# Altium schematic symbol library Microchip Interface.SchLib: 331 symbols (part 1 of 10)
Pins are listed as number, name and electrical type; pins without a type are passive.

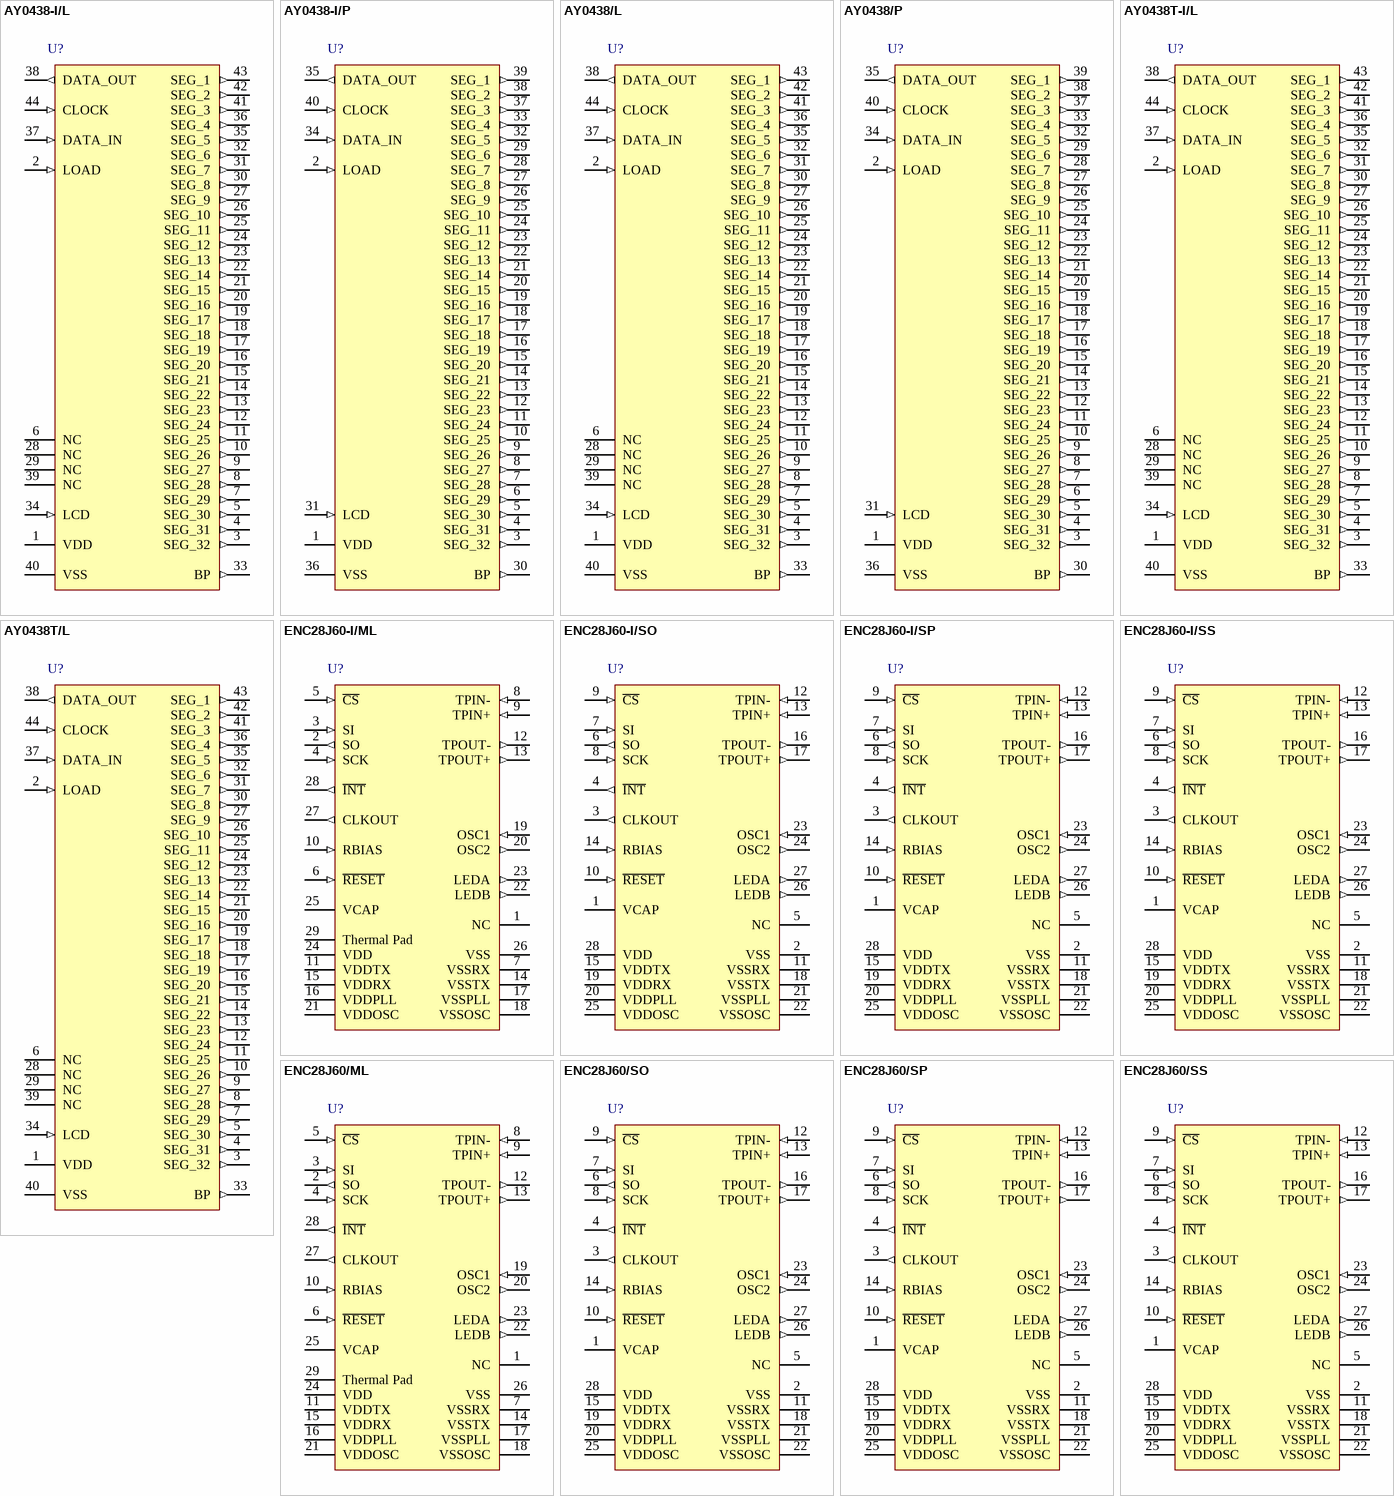
[diagram p0: symbols AY0438-I/L to ENC28J60/SS]

## AY0438-I/L
designator U?
32-Segment CMOS LCD Driver, 44-Pin PLCC, Industrial Temperature; Manufacturer: Microchip; PartNumber: AY0438-I/L; DatasheetVersion: revA, Apr-2003; PackageVersion: revBB, Aug-2009; PackageReference: PLCC-L44; PackageDescription: 44-Lead Plastic Leaded Chip Carrier (L) - Square [PLCC]; Supplier 1: Digi-Key; Supplier Part Number 1: AY0438-I/L-ND; Mounting Technology: Surface Mount; Code_JEDEC: MO-047; Code_IPC: PLCC-44; ComponentLink1Description: Manufacturer URL; ComponentLink1URL: http://www.microchip.com/; ComponentLink2Description: Datasheet; ComponentLink2URL: http://ww1.microchip.com/downloads/en/DeviceDoc/80438a.pdf; ComponentLink3Description: Package Specification; ComponentLink3URL: http://www.microchip.com/stellent/groups/techpub_sg/documents/packagingspec/en012702.pdf
footprint PLCC-L44_N (Leaded Chip Carrier, 44-Leads, Body 16.6x16.6mm, Pitch 1.27mm, IPC Medium Density)
footprint PLCC-L44_L (Leaded Chip Carrier, 44-Leads, Body 16.6x16.6mm, Pitch 1.27mm, IPC High Density)
footprint PLCC-L44_M (Leaded Chip Carrier, 44-Leads, Body 16.6x16.6mm, Pitch 1.27mm, IPC Low Density)
pins: 1 VDD (power), 2 LOAD (in), 3 SEG_32 (out), 4 SEG_31 (out), 5 SEG_30 (out), 6 NC, 7 SEG_29 (out), 8 SEG_28 (out), 9 SEG_27 (out), 10 SEG_26 (out), 11 SEG_25 (out), 12 SEG_24 (out), 13 SEG_23 (out), 14 SEG_22 (out), 15 SEG_21 (out), 16 SEG_20 (out), 17 SEG_19 (out), 18 SEG_18 (out), 19 SEG_17 (out), 20 SEG_16 (out), 21 SEG_15 (out), 22 SEG_14 (out), 23 SEG_13 (out), 24 SEG_12 (out), 25 SEG_11 (out), 26 SEG_10 (out), 27 SEG_9 (out), 28 NC, 29 NC, 30 SEG_8 (out), 31 SEG_7 (out), 32 SEG_6 (out), 33 BP (out), 34 LCD (in), 35 SEG_5 (out), 36 SEG_4 (out), 37 DATA_IN (in), 38 DATA_OUT (out), 39 NC, 40 VSS (power), 41 SEG_3 (out), 42 SEG_2 (out), 43 SEG_1 (out), 44 CLOCK (in)

## AY0438-I/P
designator U?
32-Segment CMOS LCD Driver, 40-Pin PDIP, Industrial Temperature; Manufacturer: Microchip; PartNumber: AY0438-I/P; DatasheetVersion: revA, Apr-2003; PackageVersion: revBB, Aug-2009; PackageReference: PDIP600-P40; PackageDescription: 40-Lead Plastic Dual In-Line (P) - 600 mil Body [PDIP]; Supplier 1: Digi-Key; Supplier Part Number 1: AY0438-I/P-ND; Mounting Technology: Through Hole; ComponentLink1Description: Manufacturer URL; ComponentLink1URL: http://www.microchip.com/; ComponentLink2Description: Datasheet; ComponentLink2URL: http://ww1.microchip.com/downloads/en/DeviceDoc/80438a.pdf; ComponentLink3Description: Package Specification; ComponentLink3URL: http://www.microchip.com/stellent/groups/techpub_sg/documents/packagingspec/en012702.pdf
footprint PDIP600-P40 (DIP, 40-Leads, Row Spacing 15.24mm, Pitch 2.54mm, Body 51.8x13.5mm)
pins: 1 VDD (power), 2 LOAD (in), 3 SEG_32 (out), 4 SEG_31 (out), 5 SEG_30 (out), 6 SEG_29 (out), 7 SEG_28 (out), 8 SEG_27 (out), 9 SEG_26 (out), 10 SEG_25 (out), 11 SEG_24 (out), 12 SEG_23 (out), 13 SEG_22 (out), 14 SEG_21 (out), 15 SEG_20 (out), 16 SEG_19 (out), 17 SEG_18 (out), 18 SEG_17 (out), 19 SEG_16 (out), 20 SEG_15 (out), 21 SEG_14 (out), 22 SEG_13 (out), 23 SEG_12 (out), 24 SEG_11 (out), 25 SEG_10 (out), 26 SEG_9 (out), 27 SEG_8 (out), 28 SEG_7 (out), 29 SEG_6 (out), 30 BP (out), 31 LCD (in), 32 SEG_5 (out), 33 SEG_4 (out), 34 DATA_IN (in), 35 DATA_OUT (out), 36 VSS (power), 37 SEG_3 (out), 38 SEG_2 (out), 39 SEG_1 (out), 40 CLOCK (in)

## AY0438/L
designator U?
32-Segment CMOS LCD Driver, 44-Pin PLCC; Manufacturer: Microchip; PartNumber: AY0438/L; DatasheetVersion: revA, Apr-2003; PackageVersion: revBB, Aug-2009; PackageReference: PLCC-L44; PackageDescription: 44-Lead Plastic Leaded Chip Carrier (L) - Square [PLCC]; Supplier 1: Digi-Key; Supplier Part Number 1: AY0438/L-ND; Mounting Technology: Surface Mount; Code_JEDEC: MO-047; Code_IPC: PLCC-44; ComponentLink1Description: Manufacturer URL; ComponentLink1URL: http://www.microchip.com/; ComponentLink2Description: Datasheet; ComponentLink2URL: http://ww1.microchip.com/downloads/en/DeviceDoc/80438a.pdf; ComponentLink3Description: Package Specification; ComponentLink3URL: http://www.microchip.com/stellent/groups/techpub_sg/documents/packagingspec/en012702.pdf
footprint PLCC-L44_N (Leaded Chip Carrier, 44-Leads, Body 16.6x16.6mm, Pitch 1.27mm, IPC Medium Density)
footprint PLCC-L44_L (Leaded Chip Carrier, 44-Leads, Body 16.6x16.6mm, Pitch 1.27mm, IPC High Density)
footprint PLCC-L44_M (Leaded Chip Carrier, 44-Leads, Body 16.6x16.6mm, Pitch 1.27mm, IPC Low Density)
pins: 1 VDD (power), 2 LOAD (in), 3 SEG_32 (out), 4 SEG_31 (out), 5 SEG_30 (out), 6 NC, 7 SEG_29 (out), 8 SEG_28 (out), 9 SEG_27 (out), 10 SEG_26 (out), 11 SEG_25 (out), 12 SEG_24 (out), 13 SEG_23 (out), 14 SEG_22 (out), 15 SEG_21 (out), 16 SEG_20 (out), 17 SEG_19 (out), 18 SEG_18 (out), 19 SEG_17 (out), 20 SEG_16 (out), 21 SEG_15 (out), 22 SEG_14 (out), 23 SEG_13 (out), 24 SEG_12 (out), 25 SEG_11 (out), 26 SEG_10 (out), 27 SEG_9 (out), 28 NC, 29 NC, 30 SEG_8 (out), 31 SEG_7 (out), 32 SEG_6 (out), 33 BP (out), 34 LCD (in), 35 SEG_5 (out), 36 SEG_4 (out), 37 DATA_IN (in), 38 DATA_OUT (out), 39 NC, 40 VSS (power), 41 SEG_3 (out), 42 SEG_2 (out), 43 SEG_1 (out), 44 CLOCK (in)

## AY0438/P
designator U?
32-Segment CMOS LCD Driver, 40-Pin PDIP; Manufacturer: Microchip; PartNumber: AY0438/P; DatasheetVersion: revA, Apr-2003; PackageVersion: revBB, Aug-2009; PackageReference: PDIP600-P40; PackageDescription: 40-Lead Plastic Dual In-Line (P) - 600 mil Body [PDIP]; Supplier 1: Digi-Key; Supplier Part Number 1: AY0438/P-ND; Mounting Technology: Through Hole; ComponentLink1Description: Manufacturer URL; ComponentLink1URL: http://www.microchip.com/; ComponentLink2Description: Datasheet; ComponentLink2URL: http://ww1.microchip.com/downloads/en/DeviceDoc/80438a.pdf; ComponentLink3Description: Package Specification; ComponentLink3URL: http://www.microchip.com/stellent/groups/techpub_sg/documents/packagingspec/en012702.pdf
footprint PDIP600-P40 (DIP, 40-Leads, Row Spacing 15.24mm, Pitch 2.54mm, Body 51.8x13.5mm)
pins: 1 VDD (power), 2 LOAD (in), 3 SEG_32 (out), 4 SEG_31 (out), 5 SEG_30 (out), 6 SEG_29 (out), 7 SEG_28 (out), 8 SEG_27 (out), 9 SEG_26 (out), 10 SEG_25 (out), 11 SEG_24 (out), 12 SEG_23 (out), 13 SEG_22 (out), 14 SEG_21 (out), 15 SEG_20 (out), 16 SEG_19 (out), 17 SEG_18 (out), 18 SEG_17 (out), 19 SEG_16 (out), 20 SEG_15 (out), 21 SEG_14 (out), 22 SEG_13 (out), 23 SEG_12 (out), 24 SEG_11 (out), 25 SEG_10 (out), 26 SEG_9 (out), 27 SEG_8 (out), 28 SEG_7 (out), 29 SEG_6 (out), 30 BP (out), 31 LCD (in), 32 SEG_5 (out), 33 SEG_4 (out), 34 DATA_IN (in), 35 DATA_OUT (out), 36 VSS (power), 37 SEG_3 (out), 38 SEG_2 (out), 39 SEG_1 (out), 40 CLOCK (in)

## AY0438T-I/L
designator U?
32-Segment CMOS LCD Driver, 44-Pin PLCC, Industrial Temperature, Tape and Reel; Manufacturer: Microchip; PartNumber: AY0438T-I/L; DatasheetVersion: revA, Apr-2003; PackageVersion: revBB, Aug-2009; PackageReference: PLCC-L44; PackageDescription: 44-Lead Plastic Leaded Chip Carrier (L) - Square [PLCC]; Supplier 1: Digi-Key; Supplier Part Number 1: AY0438T-I/L-ND; Mounting Technology: Surface Mount; Code_JEDEC: MO-047; Code_IPC: PLCC-44; ComponentLink1Description: Manufacturer URL; ComponentLink1URL: http://www.microchip.com/; ComponentLink2Description: Datasheet; ComponentLink2URL: http://ww1.microchip.com/downloads/en/DeviceDoc/80438a.pdf; ComponentLink3Description: Package Specification; ComponentLink3URL: http://www.microchip.com/stellent/groups/techpub_sg/documents/packagingspec/en012702.pdf
footprint PLCC-L44_N (Leaded Chip Carrier, 44-Leads, Body 16.6x16.6mm, Pitch 1.27mm, IPC Medium Density)
footprint PLCC-L44_L (Leaded Chip Carrier, 44-Leads, Body 16.6x16.6mm, Pitch 1.27mm, IPC High Density)
footprint PLCC-L44_M (Leaded Chip Carrier, 44-Leads, Body 16.6x16.6mm, Pitch 1.27mm, IPC Low Density)
pins: 1 VDD (power), 2 LOAD (in), 3 SEG_32 (out), 4 SEG_31 (out), 5 SEG_30 (out), 6 NC, 7 SEG_29 (out), 8 SEG_28 (out), 9 SEG_27 (out), 10 SEG_26 (out), 11 SEG_25 (out), 12 SEG_24 (out), 13 SEG_23 (out), 14 SEG_22 (out), 15 SEG_21 (out), 16 SEG_20 (out), 17 SEG_19 (out), 18 SEG_18 (out), 19 SEG_17 (out), 20 SEG_16 (out), 21 SEG_15 (out), 22 SEG_14 (out), 23 SEG_13 (out), 24 SEG_12 (out), 25 SEG_11 (out), 26 SEG_10 (out), 27 SEG_9 (out), 28 NC, 29 NC, 30 SEG_8 (out), 31 SEG_7 (out), 32 SEG_6 (out), 33 BP (out), 34 LCD (in), 35 SEG_5 (out), 36 SEG_4 (out), 37 DATA_IN (in), 38 DATA_OUT (out), 39 NC, 40 VSS (power), 41 SEG_3 (out), 42 SEG_2 (out), 43 SEG_1 (out), 44 CLOCK (in)

## AY0438T/L
designator U?
32-Segment CMOS LCD Driver, 44-Pin PLCC; Manufacturer: Microchip; PartNumber: AY0438T/L; DatasheetVersion: revA, Apr-2003; PackageVersion: revBB, Aug-2009; PackageReference: PLCC-L44; PackageDescription: 44-Lead Plastic Leaded Chip Carrier (L) - Square [PLCC]; Supplier 1: Digi-Key; Supplier Part Number 1: AY0438T/L-ND; Mounting Technology: Surface Mount; Code_JEDEC: MO-047; Code_IPC: PLCC-44; ComponentLink1Description: Manufacturer URL; ComponentLink1URL: http://www.microchip.com/; ComponentLink2Description: Datasheet; ComponentLink2URL: http://ww1.microchip.com/downloads/en/DeviceDoc/80438a.pdf; ComponentLink3Description: Package Specification; ComponentLink3URL: http://www.microchip.com/stellent/groups/techpub_sg/documents/packagingspec/en012702.pdf
footprint PLCC-L44_N (Leaded Chip Carrier, 44-Leads, Body 16.6x16.6mm, Pitch 1.27mm, IPC Medium Density)
footprint PLCC-L44_L (Leaded Chip Carrier, 44-Leads, Body 16.6x16.6mm, Pitch 1.27mm, IPC High Density)
footprint PLCC-L44_M (Leaded Chip Carrier, 44-Leads, Body 16.6x16.6mm, Pitch 1.27mm, IPC Low Density)
pins: 1 VDD (power), 2 LOAD (in), 3 SEG_32 (out), 4 SEG_31 (out), 5 SEG_30 (out), 6 NC, 7 SEG_29 (out), 8 SEG_28 (out), 9 SEG_27 (out), 10 SEG_26 (out), 11 SEG_25 (out), 12 SEG_24 (out), 13 SEG_23 (out), 14 SEG_22 (out), 15 SEG_21 (out), 16 SEG_20 (out), 17 SEG_19 (out), 18 SEG_18 (out), 19 SEG_17 (out), 20 SEG_16 (out), 21 SEG_15 (out), 22 SEG_14 (out), 23 SEG_13 (out), 24 SEG_12 (out), 25 SEG_11 (out), 26 SEG_10 (out), 27 SEG_9 (out), 28 NC, 29 NC, 30 SEG_8 (out), 31 SEG_7 (out), 32 SEG_6 (out), 33 BP (out), 34 LCD (in), 35 SEG_5 (out), 36 SEG_4 (out), 37 DATA_IN (in), 38 DATA_OUT (out), 39 NC, 40 VSS (power), 41 SEG_3 (out), 42 SEG_2 (out), 43 SEG_1 (out), 44 CLOCK (in)

## ENC28J60-I/ML
designator U?
Stand-Alone Ethernet Controller with SPI Interface, 28-Pin QFN, Industrial Temperature; Manufacturer: Microchip; PartNumber: ENC28J60-I/ML; DatasheetVersion: revC, Jan-2008; PackageVersion: revBB, Aug-2009; PackageReference: QFN-ML28; PackageDescription: 28-Lead Plastic Quad Flat, No Lead Package (ML) - 6x6 mm Body [QFN] with 0.55 mm Contact Length; Supplier 1: Digi-Key; Supplier Part Number 1: ENC28J60-I/ML-ND; Mounting Technology: Surface Mount; Code_JEDEC: MO-220; ComponentLink1Description: Manufacturer URL; ComponentLink1URL: http://www.microchip.com/; ComponentLink2Description: Datasheet; ComponentLink2URL: http://ww1.microchip.com/downloads/en/DeviceDoc/39662c.pdf; ComponentLink3Description: Package Specification; ComponentLink3URL: http://www.microchip.com/stellent/groups/techpub_sg/documents/packagingspec/en012702.pdf
footprint QFN-ML28_N (QFN, 28-Leads, Body 6x6mm, Pitch 0.65mm, Thermal Pad 4.2x4.2mm, IPC Medium Density)
footprint QFN-ML28_L (QFN, 28-Leads, Body 6x6mm, Pitch 0.65mm, Thermal Pad 4.2x4.2mm, IPC High Density)
footprint QFN-ML28_M (QFN, 28-Leads, Body 6x6mm, Pitch 0.65mm, Thermal Pad 4.2x4.2mm, IPC Low Density)
pins: 1 NC, 2 SO (out), 3 SI (in), 4 SCK (in), 5 ~{CS} (in), 6 ~{RESET} (in), 7 VSSRX (power), 8 TPIN- (in), 9 TPIN+ (in), 10 RBIAS (in), 11 VDDTX (power), 12 TPOUT- (out), 13 TPOUT+ (out), 14 VSSTX (power), 15 VDDRX (power), 16 VDDPLL (power), 17 VSSPLL (power), 18 VSSOSC (power), 19 OSC1 (in), 20 OSC2 (out), 21 VDDOSC (power), 22 LEDB (out), 23 LEDA (out), 24 VDD (power), 25 VCAP (power), 26 VSS (power), 27 CLKOUT (out), 28 ~{INT} (out), 29 Thermal Pad

## ENC28J60-I/SO
designator U?
Stand-Alone Ethernet Controller with SPI Interface, 28-Pin SOIC, Industrial Temperature; Manufacturer: Microchip; PartNumber: ENC28J60-I/SO; DatasheetVersion: revC, Jan-2008; PackageVersion: revBB, Aug-2009; PackageReference: SOIC-SO28; PackageDescription: 28-Lead Plastic Small Outline (SO) - Wide 7.50mm Body [SOIC]; Supplier 1: Digi-Key; Supplier Part Number 1: ENC28J60-I/SO-ND; Mounting Technology: Surface Mount; Code_JEDEC: MS-013; ComponentLink1Description: Manufacturer URL; ComponentLink1URL: http://www.microchip.com/; ComponentLink2Description: Datasheet; ComponentLink2URL: http://ww1.microchip.com/downloads/en/DeviceDoc/39662c.pdf; ComponentLink3Description: Package Specification; ComponentLink3URL: http://www.microchip.com/stellent/groups/techpub_sg/documents/packagingspec/en012702.pdf
footprint SOIC-SO28_N (SOIC, 28-Leads, Body 17.9x7.5mm, Pitch 1.27mm, IPC Medium Density)
footprint SOIC-SO28_L (SOIC, 28-Leads, Body 17.9x7.5mm, Pitch 1.27mm, IPC High Density)
footprint SOIC-SO28_M (SOIC, 28-Leads, Body 17.9x7.5mm, Pitch 1.27mm, IPC Low Density)
pins: 1 VCAP (power), 2 VSS (power), 3 CLKOUT (out), 4 ~{INT} (out), 5 NC, 6 SO (out), 7 SI (in), 8 SCK (in), 9 ~{CS} (in), 10 ~{RESET} (in), 11 VSSRX (power), 12 TPIN- (in), 13 TPIN+ (in), 14 RBIAS (in), 15 VDDTX (power), 16 TPOUT- (out), 17 TPOUT+ (out), 18 VSSTX (power), 19 VDDRX (power), 20 VDDPLL (power), 21 VSSPLL (power), 22 VSSOSC (power), 23 OSC1 (in), 24 OSC2 (out), 25 VDDOSC (power), 26 LEDB (out), 27 LEDA (out), 28 VDD (power)

## ENC28J60-I/SP
designator U?
Stand-Alone Ethernet Controller with SPI Interface, 28-Pin SPDIP, Industrial Temperature; Manufacturer: Microchip; PartNumber: ENC28J60-I/SP; DatasheetVersion: revC, Jan-2008; PackageVersion: revBB, Aug-2009; PackageReference: SPDIP300-SP28; PackageDescription: 28-Lead Skinny Plastic Dual In-Line (SP) - 300 mil Body [SPDIP]; Supplier 1: Digi-Key; Supplier Part Number 1: ENC28J60-I/SP-ND; Mounting Technology: Through Hole; ComponentLink1Description: Manufacturer URL; ComponentLink1URL: http://www.microchip.com/; ComponentLink2Description: Datasheet; ComponentLink2URL: http://ww1.microchip.com/downloads/en/DeviceDoc/39662c.pdf; ComponentLink3Description: Package Specification; ComponentLink3URL: http://www.microchip.com/stellent/groups/techpub_sg/documents/packagingspec/en012702.pdf
footprint SPDIP300-SP28 (DIP, 28-Leads, Row Spacing 7.62mm, Pitch 2.54mm, Body 34.9x6.8mm)
pins: 1 VCAP (power), 2 VSS (power), 3 CLKOUT (out), 4 ~{INT} (out), 5 NC, 6 SO (out), 7 SI (in), 8 SCK (in), 9 ~{CS} (in), 10 ~{RESET} (in), 11 VSSRX (power), 12 TPIN- (in), 13 TPIN+ (in), 14 RBIAS (in), 15 VDDTX (power), 16 TPOUT- (out), 17 TPOUT+ (out), 18 VSSTX (power), 19 VDDRX (power), 20 VDDPLL (power), 21 VSSPLL (power), 22 VSSOSC (power), 23 OSC1 (in), 24 OSC2 (out), 25 VDDOSC (power), 26 LEDB (out), 27 LEDA (out), 28 VDD (power)

## ENC28J60-I/SS
designator U?
Stand-Alone Ethernet Controller with SPI Interface, 28-Pin SSOP, Industrial Temperature; Manufacturer: Microchip; PartNumber: ENC28J60-I/SS; DatasheetVersion: revC, Jan-2008; PackageVersion: revBB, Aug-2009; PackageReference: SSOP-SS28; PackageDescription: 28-Lead Plastic Shrink Small Outline (SS) - 5.3mm Body [SSOP]; Supplier 1: Digi-Key; Supplier Part Number 1: ENC28J60-I/SS-ND; Mounting Technology: Surface Mount; Code_JEDEC: MS-150; ComponentLink1Description: Manufacturer URL; ComponentLink1URL: http://www.microchip.com/; ComponentLink2Description: Datasheet; ComponentLink2URL: http://ww1.microchip.com/downloads/en/DeviceDoc/39662c.pdf; ComponentLink3Description: Package Specification; ComponentLink3URL: http://www.microchip.com/stellent/groups/techpub_sg/documents/packagingspec/en012702.pdf
footprint SSOP-SS28_N (SOP, 28-Leads, Body 10.2x5.2mm, Pitch 0.65mm, IPC Medium Density)
footprint SSOP-SS28_L (SOP, 28-Leads, Body 10.2x5.2mm, Pitch 0.65mm, IPC High Density)
footprint SSOP-SS28_M (SOP, 28-Leads, Body 10.2x5.2mm, Pitch 0.65mm, IPC Low Density)
pins: 1 VCAP (power), 2 VSS (power), 3 CLKOUT (out), 4 ~{INT} (out), 5 NC, 6 SO (out), 7 SI (in), 8 SCK (in), 9 ~{CS} (in), 10 ~{RESET} (in), 11 VSSRX (power), 12 TPIN- (in), 13 TPIN+ (in), 14 RBIAS (in), 15 VDDTX (power), 16 TPOUT- (out), 17 TPOUT+ (out), 18 VSSTX (power), 19 VDDRX (power), 20 VDDPLL (power), 21 VSSPLL (power), 22 VSSOSC (power), 23 OSC1 (in), 24 OSC2 (out), 25 VDDOSC (power), 26 LEDB (out), 27 LEDA (out), 28 VDD (power)

## ENC28J60/ML
designator U?
Stand-Alone Ethernet Controller with SPI Interface, 28-Pin QFN; Manufacturer: Microchip; PartNumber: ENC28J60/ML; DatasheetVersion: revC, Jan-2008; PackageVersion: revBB, Aug-2009; PackageReference: QFN-ML28; PackageDescription: 28-Lead Plastic Quad Flat, No Lead Package (ML) - 6x6 mm Body [QFN] with 0.55 mm Contact Length; Supplier 1: Digi-Key; Supplier Part Number 1: ENC28J60/ML-ND; Mounting Technology: Surface Mount; Code_JEDEC: MO-220; ComponentLink1Description: Manufacturer URL; ComponentLink1URL: http://www.microchip.com/; ComponentLink2Description: Datasheet; ComponentLink2URL: http://ww1.microchip.com/downloads/en/DeviceDoc/39662c.pdf; ComponentLink3Description: Package Specification; ComponentLink3URL: http://www.microchip.com/stellent/groups/techpub_sg/documents/packagingspec/en012702.pdf
footprint QFN-ML28_N (QFN, 28-Leads, Body 6x6mm, Pitch 0.65mm, Thermal Pad 4.2x4.2mm, IPC Medium Density)
footprint QFN-ML28_L (QFN, 28-Leads, Body 6x6mm, Pitch 0.65mm, Thermal Pad 4.2x4.2mm, IPC High Density)
footprint QFN-ML28_M (QFN, 28-Leads, Body 6x6mm, Pitch 0.65mm, Thermal Pad 4.2x4.2mm, IPC Low Density)
pins: 1 NC, 2 SO (out), 3 SI (in), 4 SCK (in), 5 ~{CS} (in), 6 ~{RESET} (in), 7 VSSRX (power), 8 TPIN- (in), 9 TPIN+ (in), 10 RBIAS (in), 11 VDDTX (power), 12 TPOUT- (out), 13 TPOUT+ (out), 14 VSSTX (power), 15 VDDRX (power), 16 VDDPLL (power), 17 VSSPLL (power), 18 VSSOSC (power), 19 OSC1 (in), 20 OSC2 (out), 21 VDDOSC (power), 22 LEDB (out), 23 LEDA (out), 24 VDD (power), 25 VCAP (power), 26 VSS (power), 27 CLKOUT (out), 28 ~{INT} (out), 29 Thermal Pad

## ENC28J60/SO
designator U?
Stand-Alone Ethernet Controller with SPI Interface, 28-Pin SOIC; Manufacturer: Microchip; PartNumber: ENC28J60/SO; DatasheetVersion: revC, Jan-2008; PackageVersion: revBB, Aug-2009; PackageReference: SOIC-SO28; PackageDescription: 28-Lead Plastic Small Outline (SO) - Wide 7.50mm Body [SOIC]; Supplier 1: Digi-Key; Supplier Part Number 1: ENC28J60/SO-ND; Mounting Technology: Surface Mount; Code_JEDEC: MS-013; ComponentLink1Description: Manufacturer URL; ComponentLink1URL: http://www.microchip.com/; ComponentLink2Description: Datasheet; ComponentLink2URL: http://ww1.microchip.com/downloads/en/DeviceDoc/39662c.pdf; ComponentLink3Description: Package Specification; ComponentLink3URL: http://www.microchip.com/stellent/groups/techpub_sg/documents/packagingspec/en012702.pdf
footprint SOIC-SO28_N (SOIC, 28-Leads, Body 17.9x7.5mm, Pitch 1.27mm, IPC Medium Density)
footprint SOIC-SO28_L (SOIC, 28-Leads, Body 17.9x7.5mm, Pitch 1.27mm, IPC High Density)
footprint SOIC-SO28_M (SOIC, 28-Leads, Body 17.9x7.5mm, Pitch 1.27mm, IPC Low Density)
pins: 1 VCAP (power), 2 VSS (power), 3 CLKOUT (out), 4 ~{INT} (out), 5 NC, 6 SO (out), 7 SI (in), 8 SCK (in), 9 ~{CS} (in), 10 ~{RESET} (in), 11 VSSRX (power), 12 TPIN- (in), 13 TPIN+ (in), 14 RBIAS (in), 15 VDDTX (power), 16 TPOUT- (out), 17 TPOUT+ (out), 18 VSSTX (power), 19 VDDRX (power), 20 VDDPLL (power), 21 VSSPLL (power), 22 VSSOSC (power), 23 OSC1 (in), 24 OSC2 (out), 25 VDDOSC (power), 26 LEDB (out), 27 LEDA (out), 28 VDD (power)

## ENC28J60/SP
designator U?
Stand-Alone Ethernet Controller with SPI Interface, 28-Pin SPDIP; Manufacturer: Microchip; PartNumber: ENC28J60/SP; DatasheetVersion: revC, Jan-2008; PackageVersion: revBB, Aug-2009; PackageReference: SPDIP300-SP28; PackageDescription: 28-Lead Skinny Plastic Dual In-Line (SP) - 300 mil Body [SPDIP]; Supplier 1: Digi-Key; Supplier Part Number 1: ENC28J60/SP-ND; Mounting Technology: Through Hole; ComponentLink1Description: Manufacturer URL; ComponentLink1URL: http://www.microchip.com/; ComponentLink2Description: Datasheet; ComponentLink2URL: http://ww1.microchip.com/downloads/en/DeviceDoc/39662c.pdf; ComponentLink3Description: Package Specification; ComponentLink3URL: http://www.microchip.com/stellent/groups/techpub_sg/documents/packagingspec/en012702.pdf
footprint SPDIP300-SP28 (DIP, 28-Leads, Row Spacing 7.62mm, Pitch 2.54mm, Body 34.9x6.8mm)
pins: 1 VCAP (power), 2 VSS (power), 3 CLKOUT (out), 4 ~{INT} (out), 5 NC, 6 SO (out), 7 SI (in), 8 SCK (in), 9 ~{CS} (in), 10 ~{RESET} (in), 11 VSSRX (power), 12 TPIN- (in), 13 TPIN+ (in), 14 RBIAS (in), 15 VDDTX (power), 16 TPOUT- (out), 17 TPOUT+ (out), 18 VSSTX (power), 19 VDDRX (power), 20 VDDPLL (power), 21 VSSPLL (power), 22 VSSOSC (power), 23 OSC1 (in), 24 OSC2 (out), 25 VDDOSC (power), 26 LEDB (out), 27 LEDA (out), 28 VDD (power)

## ENC28J60/SS
designator U?
Stand-Alone Ethernet Controller with SPI Interface, 28-Pin SSOP; Manufacturer: Microchip; PartNumber: ENC28J60/SS; DatasheetVersion: revC, Jan-2008; PackageVersion: revBB, Aug-2009; PackageReference: SSOP-SS28; PackageDescription: 28-Lead Plastic Shrink Small Outline (SS) - 5.3mm Body [SSOP]; Supplier 1: Digi-Key; Supplier Part Number 1: ENC28J60/SS-ND; Mounting Technology: Surface Mount; Code_JEDEC: MS-150; ComponentLink1Description: Manufacturer URL; ComponentLink1URL: http://www.microchip.com/; ComponentLink2Description: Datasheet; ComponentLink2URL: http://ww1.microchip.com/downloads/en/DeviceDoc/39662c.pdf; ComponentLink3Description: Package Specification; ComponentLink3URL: http://www.microchip.com/stellent/groups/techpub_sg/documents/packagingspec/en012702.pdf
footprint SSOP-SS28_N (SOP, 28-Leads, Body 10.2x5.2mm, Pitch 0.65mm, IPC Medium Density)
footprint SSOP-SS28_L (SOP, 28-Leads, Body 10.2x5.2mm, Pitch 0.65mm, IPC High Density)
footprint SSOP-SS28_M (SOP, 28-Leads, Body 10.2x5.2mm, Pitch 0.65mm, IPC Low Density)
pins: 1 VCAP (power), 2 VSS (power), 3 CLKOUT (out), 4 ~{INT} (out), 5 NC, 6 SO (out), 7 SI (in), 8 SCK (in), 9 ~{CS} (in), 10 ~{RESET} (in), 11 VSSRX (power), 12 TPIN- (in), 13 TPIN+ (in), 14 RBIAS (in), 15 VDDTX (power), 16 TPOUT- (out), 17 TPOUT+ (out), 18 VSSTX (power), 19 VDDRX (power), 20 VDDPLL (power), 21 VSSPLL (power), 22 VSSOSC (power), 23 OSC1 (in), 24 OSC2 (out), 25 VDDOSC (power), 26 LEDB (out), 27 LEDA (out), 28 VDD (power)

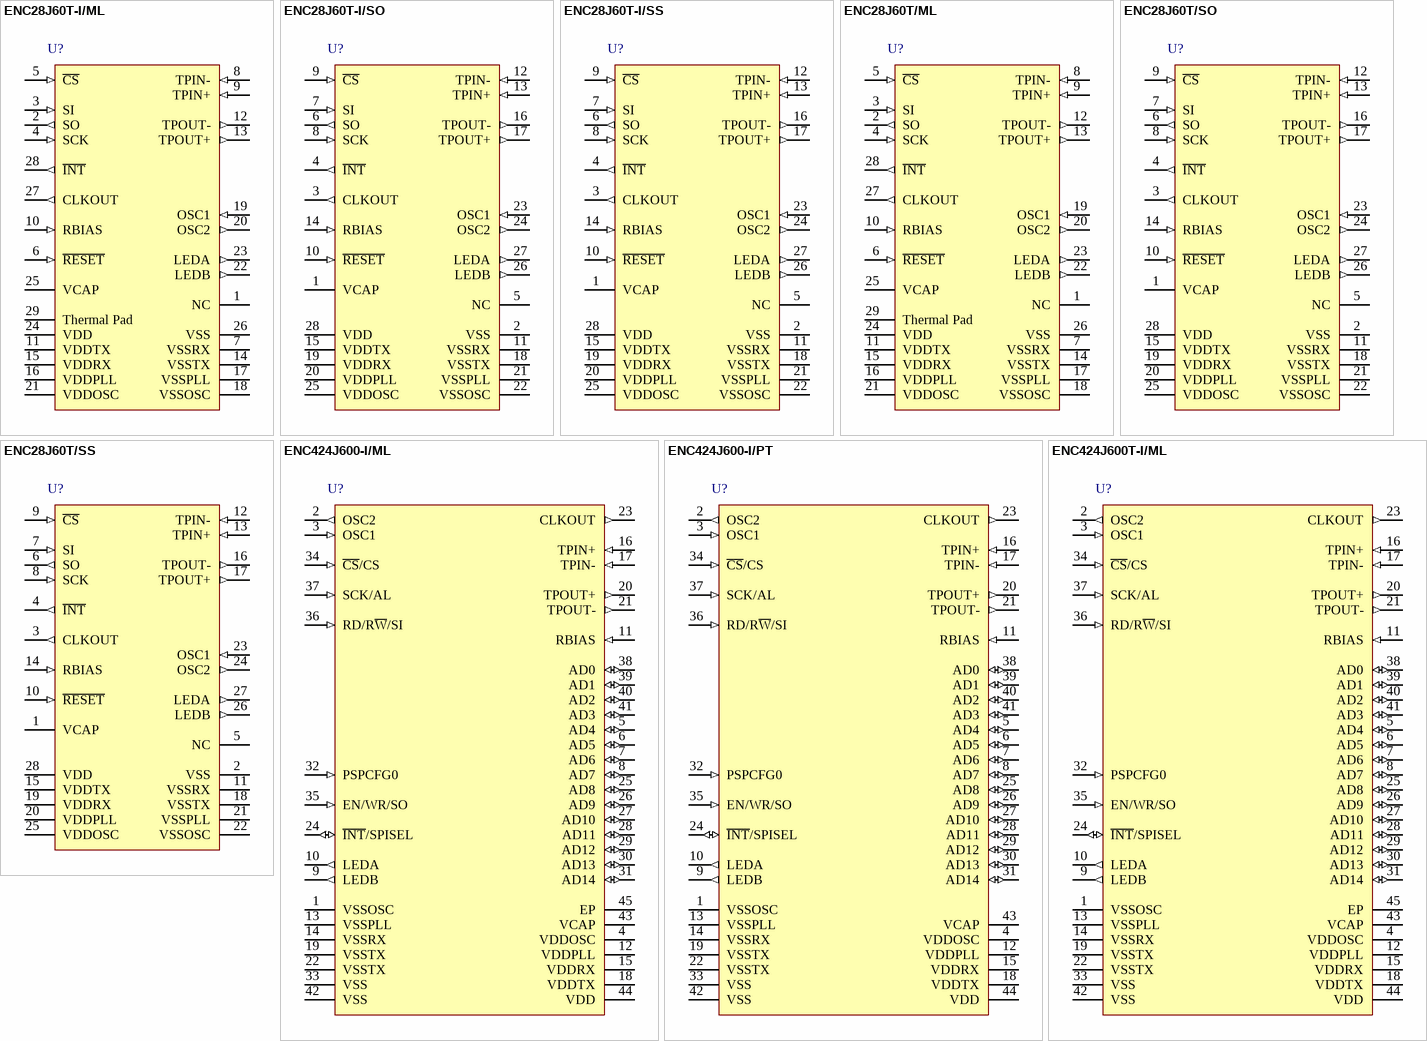
[diagram p1: symbols ENC28J60T-I/ML to ENC424J600T-I/ML]

## ENC28J60T-I/ML
designator U?
Stand-Alone Ethernet Controller with SPI Interface, 28-Pin QFN, Industrial Temperature, Tape and Reel; Manufacturer: Microchip; PartNumber: ENC28J60T-I/ML; DatasheetVersion: revC, Jan-2008; PackageVersion: revBB, Aug-2009; PackageReference: QFN-ML28; PackageDescription: 28-Lead Plastic Quad Flat, No Lead Package (ML) - 6x6 mm Body [QFN] with 0.55 mm Contact Length; Supplier 1: Digi-Key; Supplier Part Number 1: ENC28J60T-I/ML-ND; Mounting Technology: Surface Mount; Code_JEDEC: MO-220; ComponentLink1Description: Manufacturer URL; ComponentLink1URL: http://www.microchip.com/; ComponentLink2Description: Datasheet; ComponentLink2URL: http://ww1.microchip.com/downloads/en/DeviceDoc/39662c.pdf; ComponentLink3Description: Package Specification; ComponentLink3URL: http://www.microchip.com/stellent/groups/techpub_sg/documents/packagingspec/en012702.pdf
footprint QFN-ML28_N (QFN, 28-Leads, Body 6x6mm, Pitch 0.65mm, Thermal Pad 4.2x4.2mm, IPC Medium Density)
footprint QFN-ML28_L (QFN, 28-Leads, Body 6x6mm, Pitch 0.65mm, Thermal Pad 4.2x4.2mm, IPC High Density)
footprint QFN-ML28_M (QFN, 28-Leads, Body 6x6mm, Pitch 0.65mm, Thermal Pad 4.2x4.2mm, IPC Low Density)
pins: 1 NC, 2 SO (out), 3 SI (in), 4 SCK (in), 5 ~{CS} (in), 6 ~{RESET} (in), 7 VSSRX (power), 8 TPIN- (in), 9 TPIN+ (in), 10 RBIAS (in), 11 VDDTX (power), 12 TPOUT- (out), 13 TPOUT+ (out), 14 VSSTX (power), 15 VDDRX (power), 16 VDDPLL (power), 17 VSSPLL (power), 18 VSSOSC (power), 19 OSC1 (in), 20 OSC2 (out), 21 VDDOSC (power), 22 LEDB (out), 23 LEDA (out), 24 VDD (power), 25 VCAP (power), 26 VSS (power), 27 CLKOUT (out), 28 ~{INT} (out), 29 Thermal Pad

## ENC28J60T-I/SO
designator U?
Stand-Alone Ethernet Controller with SPI Interface, 28-Pin SOIC, Industrial Temperature, Tape and Reel; Manufacturer: Microchip; PartNumber: ENC28J60T-I/SO; DatasheetVersion: revC, Jan-2008; PackageVersion: revBB, Aug-2009; PackageReference: SOIC-SO28; PackageDescription: 28-Lead Plastic Small Outline (SO) - Wide 7.50mm Body [SOIC]; Supplier 1: Digi-Key; Supplier Part Number 1: ENC28J60T-I/SOTR-ND; Mounting Technology: Surface Mount; Code_JEDEC: MS-013; ComponentLink1Description: Manufacturer URL; ComponentLink1URL: http://www.microchip.com/; ComponentLink2Description: Datasheet; ComponentLink2URL: http://ww1.microchip.com/downloads/en/DeviceDoc/39662c.pdf; ComponentLink3Description: Package Specification; ComponentLink3URL: http://www.microchip.com/stellent/groups/techpub_sg/documents/packagingspec/en012702.pdf
footprint SOIC-SO28_N (SOIC, 28-Leads, Body 17.9x7.5mm, Pitch 1.27mm, IPC Medium Density)
footprint SOIC-SO28_L (SOIC, 28-Leads, Body 17.9x7.5mm, Pitch 1.27mm, IPC High Density)
footprint SOIC-SO28_M (SOIC, 28-Leads, Body 17.9x7.5mm, Pitch 1.27mm, IPC Low Density)
pins: 1 VCAP (power), 2 VSS (power), 3 CLKOUT (out), 4 ~{INT} (out), 5 NC, 6 SO (out), 7 SI (in), 8 SCK (in), 9 ~{CS} (in), 10 ~{RESET} (in), 11 VSSRX (power), 12 TPIN- (in), 13 TPIN+ (in), 14 RBIAS (in), 15 VDDTX (power), 16 TPOUT- (out), 17 TPOUT+ (out), 18 VSSTX (power), 19 VDDRX (power), 20 VDDPLL (power), 21 VSSPLL (power), 22 VSSOSC (power), 23 OSC1 (in), 24 OSC2 (out), 25 VDDOSC (power), 26 LEDB (out), 27 LEDA (out), 28 VDD (power)

## ENC28J60T-I/SS
designator U?
Stand-Alone Ethernet Controller with SPI Interface, 28-Pin SSOP, Industrial Temperature, Tape and Reel; Manufacturer: Microchip; PartNumber: ENC28J60T-I/SS; DatasheetVersion: revC, Jan-2008; PackageVersion: revBB, Aug-2009; PackageReference: SSOP-SS28; PackageDescription: 28-Lead Plastic Shrink Small Outline (SS) - 5.3mm Body [SSOP]; Supplier 1: Digi-Key; Supplier Part Number 1: ENC28J60T-I/SSTR-ND; Mounting Technology: Surface Mount; Code_JEDEC: MS-150; ComponentLink1Description: Manufacturer URL; ComponentLink1URL: http://www.microchip.com/; ComponentLink2Description: Datasheet; ComponentLink2URL: http://ww1.microchip.com/downloads/en/DeviceDoc/39662c.pdf; ComponentLink3Description: Package Specification; ComponentLink3URL: http://www.microchip.com/stellent/groups/techpub_sg/documents/packagingspec/en012702.pdf
footprint SSOP-SS28_N (SOP, 28-Leads, Body 10.2x5.2mm, Pitch 0.65mm, IPC Medium Density)
footprint SSOP-SS28_L (SOP, 28-Leads, Body 10.2x5.2mm, Pitch 0.65mm, IPC High Density)
footprint SSOP-SS28_M (SOP, 28-Leads, Body 10.2x5.2mm, Pitch 0.65mm, IPC Low Density)
pins: 1 VCAP (power), 2 VSS (power), 3 CLKOUT (out), 4 ~{INT} (out), 5 NC, 6 SO (out), 7 SI (in), 8 SCK (in), 9 ~{CS} (in), 10 ~{RESET} (in), 11 VSSRX (power), 12 TPIN- (in), 13 TPIN+ (in), 14 RBIAS (in), 15 VDDTX (power), 16 TPOUT- (out), 17 TPOUT+ (out), 18 VSSTX (power), 19 VDDRX (power), 20 VDDPLL (power), 21 VSSPLL (power), 22 VSSOSC (power), 23 OSC1 (in), 24 OSC2 (out), 25 VDDOSC (power), 26 LEDB (out), 27 LEDA (out), 28 VDD (power)

## ENC28J60T/ML
designator U?
Stand-Alone Ethernet Controller with SPI Interface, 28-Pin QFN; Manufacturer: Microchip; PartNumber: ENC28J60T/ML; DatasheetVersion: revC, Jan-2008; PackageVersion: revBB, Aug-2009; PackageReference: QFN-ML28; PackageDescription: 28-Lead Plastic Quad Flat, No Lead Package (ML) - 6x6 mm Body [QFN] with 0.55 mm Contact Length; Supplier 1: Digi-Key; Supplier Part Number 1: ENC28J60T/ML-ND; Mounting Technology: Surface Mount; Code_JEDEC: MO-220; ComponentLink1Description: Manufacturer URL; ComponentLink1URL: http://www.microchip.com/; ComponentLink2Description: Datasheet; ComponentLink2URL: http://ww1.microchip.com/downloads/en/DeviceDoc/39662c.pdf; ComponentLink3Description: Package Specification; ComponentLink3URL: http://www.microchip.com/stellent/groups/techpub_sg/documents/packagingspec/en012702.pdf
footprint QFN-ML28_N (QFN, 28-Leads, Body 6x6mm, Pitch 0.65mm, Thermal Pad 4.2x4.2mm, IPC Medium Density)
footprint QFN-ML28_L (QFN, 28-Leads, Body 6x6mm, Pitch 0.65mm, Thermal Pad 4.2x4.2mm, IPC High Density)
footprint QFN-ML28_M (QFN, 28-Leads, Body 6x6mm, Pitch 0.65mm, Thermal Pad 4.2x4.2mm, IPC Low Density)
pins: 1 NC, 2 SO (out), 3 SI (in), 4 SCK (in), 5 ~{CS} (in), 6 ~{RESET} (in), 7 VSSRX (power), 8 TPIN- (in), 9 TPIN+ (in), 10 RBIAS (in), 11 VDDTX (power), 12 TPOUT- (out), 13 TPOUT+ (out), 14 VSSTX (power), 15 VDDRX (power), 16 VDDPLL (power), 17 VSSPLL (power), 18 VSSOSC (power), 19 OSC1 (in), 20 OSC2 (out), 21 VDDOSC (power), 22 LEDB (out), 23 LEDA (out), 24 VDD (power), 25 VCAP (power), 26 VSS (power), 27 CLKOUT (out), 28 ~{INT} (out), 29 Thermal Pad

## ENC28J60T/SO
designator U?
Stand-Alone Ethernet Controller with SPI Interface, 28-Pin SOIC; Manufacturer: Microchip; PartNumber: ENC28J60T/SO; DatasheetVersion: revC, Jan-2008; PackageVersion: revBB, Aug-2009; PackageReference: SOIC-SO28; PackageDescription: 28-Lead Plastic Small Outline (SO) - Wide 7.50mm Body [SOIC]; Supplier 1: Digi-Key; Supplier Part Number 1: ENC28J60T/SO-ND; Mounting Technology: Surface Mount; Code_JEDEC: MS-013; ComponentLink1Description: Manufacturer URL; ComponentLink1URL: http://www.microchip.com/; ComponentLink2Description: Datasheet; ComponentLink2URL: http://ww1.microchip.com/downloads/en/DeviceDoc/39662c.pdf; ComponentLink3Description: Package Specification; ComponentLink3URL: http://www.microchip.com/stellent/groups/techpub_sg/documents/packagingspec/en012702.pdf
footprint SOIC-SO28_N (SOIC, 28-Leads, Body 17.9x7.5mm, Pitch 1.27mm, IPC Medium Density)
footprint SOIC-SO28_L (SOIC, 28-Leads, Body 17.9x7.5mm, Pitch 1.27mm, IPC High Density)
footprint SOIC-SO28_M (SOIC, 28-Leads, Body 17.9x7.5mm, Pitch 1.27mm, IPC Low Density)
pins: 1 VCAP (power), 2 VSS (power), 3 CLKOUT (out), 4 ~{INT} (out), 5 NC, 6 SO (out), 7 SI (in), 8 SCK (in), 9 ~{CS} (in), 10 ~{RESET} (in), 11 VSSRX (power), 12 TPIN- (in), 13 TPIN+ (in), 14 RBIAS (in), 15 VDDTX (power), 16 TPOUT- (out), 17 TPOUT+ (out), 18 VSSTX (power), 19 VDDRX (power), 20 VDDPLL (power), 21 VSSPLL (power), 22 VSSOSC (power), 23 OSC1 (in), 24 OSC2 (out), 25 VDDOSC (power), 26 LEDB (out), 27 LEDA (out), 28 VDD (power)

## ENC28J60T/SS
designator U?
Stand-Alone Ethernet Controller with SPI Interface, 28-Pin SSOP, Tape and Reel; Manufacturer: Microchip; PartNumber: ENC28J60T/SS; DatasheetVersion: revC, Jan-2008; PackageVersion: revBB, Aug-2009; PackageReference: SSOP-SS28; PackageDescription: 28-Lead Plastic Shrink Small Outline (SS) - 5.3mm Body [SSOP]; Supplier 1: Digi-Key; Supplier Part Number 1: ENC28J60T/SS-ND; Mounting Technology: Surface Mount; Code_JEDEC: MS-150; ComponentLink1Description: Manufacturer URL; ComponentLink1URL: http://www.microchip.com/; ComponentLink2Description: Datasheet; ComponentLink2URL: http://ww1.microchip.com/downloads/en/DeviceDoc/39662c.pdf; ComponentLink3Description: Package Specification; ComponentLink3URL: http://www.microchip.com/stellent/groups/techpub_sg/documents/packagingspec/en012702.pdf
footprint SSOP-SS28_N (SOP, 28-Leads, Body 10.2x5.2mm, Pitch 0.65mm, IPC Medium Density)
footprint SSOP-SS28_L (SOP, 28-Leads, Body 10.2x5.2mm, Pitch 0.65mm, IPC High Density)
footprint SSOP-SS28_M (SOP, 28-Leads, Body 10.2x5.2mm, Pitch 0.65mm, IPC Low Density)
pins: 1 VCAP (power), 2 VSS (power), 3 CLKOUT (out), 4 ~{INT} (out), 5 NC, 6 SO (out), 7 SI (in), 8 SCK (in), 9 ~{CS} (in), 10 ~{RESET} (in), 11 VSSRX (power), 12 TPIN- (in), 13 TPIN+ (in), 14 RBIAS (in), 15 VDDTX (power), 16 TPOUT- (out), 17 TPOUT+ (out), 18 VSSTX (power), 19 VDDRX (power), 20 VDDPLL (power), 21 VSSPLL (power), 22 VSSOSC (power), 23 OSC1 (in), 24 OSC2 (out), 25 VDDOSC (power), 26 LEDB (out), 27 LEDA (out), 28 VDD (power)

## ENC424J600-I/ML
designator U?
Stand-Alone 10/100 Ethernet Controller with SPI or Parallel Interface, 44-Pin QFN, Industrial Temperature; Manufacturer: Microchip; PartNumber: ENC424J600-I/ML; DatasheetVersion: revC, Jan-2010; PackageVersion: revBB, Aug-2009; PackageReference: QFN-ML44; PackageDescription: 44-Lead Plastic Quad Flat, No Lead Package (ML) - 8x8 mm Body [QFN]; Supplier 1: Digi-Key; Supplier Part Number 1: ENC424J600-I/ML-ND; Mounting Technology: Surface Mount; Code_JEDEC: MO-220; Code_IPC: QFN65P800X800-44V2; ComponentLink1Description: Manufacturer URL; ComponentLink1URL: http://www.microchip.com/; ComponentLink2Description: Datasheet; ComponentLink2URL: http://ww1.microchip.com/downloads/en/DeviceDoc/39935c.pdf; ComponentLink3Description: Package Specification; ComponentLink3URL: http://www.microchip.com/stellent/groups/techpub_sg/documents/packagingspec/en012702.pdf
footprint QFN-ML44_N (QFN, 44-Leads, Body 8x8mm, Pitch 0.65mm, Thermal Pad 6.8x6.8mm, IPC Medium Density)
footprint QFN-ML44_L (QFN, 44-Leads, Body 8x8mm, Pitch 0.65mm, Thermal Pad 6.8x6.8mm, IPC High Density)
footprint QFN-ML44_M (QFN, 44-Leads, Body 8x8mm, Pitch 0.65mm, Thermal Pad 6.8x6.8mm, IPC Low Density)
pins: 1 VSSOSC (power), 2 OSC2 (out), 3 OSC1 (in), 4 VDDOSC (power), 5 AD4 (io), 6 AD5 (io), 7 AD6 (io), 8 AD7 (io), 9 LEDB (out), 10 LEDA (out), 11 RBIAS (in), 12 VDDPLL (power), 13 VSSPLL (power), 14 VSSRX (power), 15 VDDRX (power), 16 TPIN+ (in), 17 TPIN- (in), 18 VDDTX (power), 19 VSSTX (power), 20 TPOUT+ (out), 21 TPOUT- (out), 22 VSSTX (power), 23 CLKOUT (out), 24 ~{INT}/SPISEL (io), 25 AD8 (io), 26 AD9 (io), 27 AD10 (io), 28 AD11 (io), 29 AD12 (io), 30 AD13 (io), 31 AD14 (io), 32 PSPCFG0 (in), 33 VSS (power), 34 ~{CS}/CS (in), 35 EN/WR/SO (in), 36 RD/R~{W}/SI (in), 37 SCK/AL (in), 38 AD0 (io), 39 AD1 (io), 40 AD2 (io), 41 AD3 (io), 42 VSS (power), 43 VCAP (power), 44 VDD (power), 45 EP

## ENC424J600-I/PT
designator U?
Stand-Alone 10/100 Ethernet Controller with SPI or Parallel Interface, 44-Pin TQFP, Industrial Temperature; Manufacturer: Microchip; PartNumber: ENC424J600-I/PT; DatasheetVersion: revC, Jan-2010; PackageVersion: revBB, Aug-2009; PackageReference: TQFP-PT44; PackageDescription: 44-Lead Plastic Thin Quad Flatpack (PT) - 10x10x1mm Body, 2.00mm [TQFP]; Supplier 1: Digi-Key; Supplier Part Number 1: ENC424J600-I/PT-ND; Mounting Technology: Surface Mount; Code_JEDEC: MS-026; ComponentLink1Description: Manufacturer URL; ComponentLink1URL: http://www.microchip.com/; ComponentLink2Description: Datasheet; ComponentLink2URL: http://ww1.microchip.com/downloads/en/DeviceDoc/39935c.pdf; ComponentLink3Description: Package Specification; ComponentLink3URL: http://www.microchip.com/stellent/groups/techpub_sg/documents/packagingspec/en012702.pdf
footprint TQFP-PT44_N (Thin QFP, 44-Leads, Body 10x10mm, Pitch 0.8mm, IPC Medium Density)
footprint TQFP-PT44_L (Thin QFP, 44-Leads, Body 10x10mm, Pitch 0.8mm, IPC High Density)
footprint TQFP-PT44_M (Thin QFP, 44-Leads, Body 10x10mm, Pitch 0.8mm, IPC Low Density)
pins: 1 VSSOSC (power), 2 OSC2 (out), 3 OSC1 (in), 4 VDDOSC (power), 5 AD4 (io), 6 AD5 (io), 7 AD6 (io), 8 AD7 (io), 9 LEDB (out), 10 LEDA (out), 11 RBIAS (in), 12 VDDPLL (power), 13 VSSPLL (power), 14 VSSRX (power), 15 VDDRX (power), 16 TPIN+ (in), 17 TPIN- (in), 18 VDDTX (power), 19 VSSTX (power), 20 TPOUT+ (out), 21 TPOUT- (out), 22 VSSTX (power), 23 CLKOUT (out), 24 ~{INT}/SPISEL (io), 25 AD8 (io), 26 AD9 (io), 27 AD10 (io), 28 AD11 (io), 29 AD12 (io), 30 AD13 (io), 31 AD14 (io), 32 PSPCFG0 (in), 33 VSS (power), 34 ~{CS}/CS (in), 35 EN/WR/SO (in), 36 RD/R~{W}/SI (in), 37 SCK/AL (in), 38 AD0 (io), 39 AD1 (io), 40 AD2 (io), 41 AD3 (io), 42 VSS (power), 43 VCAP (power), 44 VDD (power)

## ENC424J600T-I/ML
designator U?
Stand-Alone 10/100 Ethernet Controller with SPI or Parallel Interface, 44-Pin QFN, Industrial Temperature, Tape and Reel; Manufacturer: Microchip; PartNumber: ENC424J600T-I/ML; DatasheetVersion: revC, Jan-2010; PackageVersion: revBB, Aug-2009; PackageReference: QFN-ML44; PackageDescription: 44-Lead Plastic Quad Flat, No Lead Package (ML) - 8x8 mm Body [QFN]; Supplier 1: Digi-Key; Supplier Part Number 1: ENC424J600T-I/ML-ND; Mounting Technology: Surface Mount; Code_JEDEC: MO-220; Code_IPC: QFN65P800X800-44V2; ComponentLink1Description: Manufacturer URL; ComponentLink1URL: http://www.microchip.com/; ComponentLink2Description: Datasheet; ComponentLink2URL: http://ww1.microchip.com/downloads/en/DeviceDoc/39935c.pdf; ComponentLink3Description: Package Specification; ComponentLink3URL: http://www.microchip.com/stellent/groups/techpub_sg/documents/packagingspec/en012702.pdf
footprint QFN-ML44_N (QFN, 44-Leads, Body 8x8mm, Pitch 0.65mm, Thermal Pad 6.8x6.8mm, IPC Medium Density)
footprint QFN-ML44_L (QFN, 44-Leads, Body 8x8mm, Pitch 0.65mm, Thermal Pad 6.8x6.8mm, IPC High Density)
footprint QFN-ML44_M (QFN, 44-Leads, Body 8x8mm, Pitch 0.65mm, Thermal Pad 6.8x6.8mm, IPC Low Density)
pins: 1 VSSOSC (power), 2 OSC2 (out), 3 OSC1 (in), 4 VDDOSC (power), 5 AD4 (io), 6 AD5 (io), 7 AD6 (io), 8 AD7 (io), 9 LEDB (out), 10 LEDA (out), 11 RBIAS (in), 12 VDDPLL (power), 13 VSSPLL (power), 14 VSSRX (power), 15 VDDRX (power), 16 TPIN+ (in), 17 TPIN- (in), 18 VDDTX (power), 19 VSSTX (power), 20 TPOUT+ (out), 21 TPOUT- (out), 22 VSSTX (power), 23 CLKOUT (out), 24 ~{INT}/SPISEL (io), 25 AD8 (io), 26 AD9 (io), 27 AD10 (io), 28 AD11 (io), 29 AD12 (io), 30 AD13 (io), 31 AD14 (io), 32 PSPCFG0 (in), 33 VSS (power), 34 ~{CS}/CS (in), 35 EN/WR/SO (in), 36 RD/R~{W}/SI (in), 37 SCK/AL (in), 38 AD0 (io), 39 AD1 (io), 40 AD2 (io), 41 AD3 (io), 42 VSS (power), 43 VCAP (power), 44 VDD (power), 45 EP

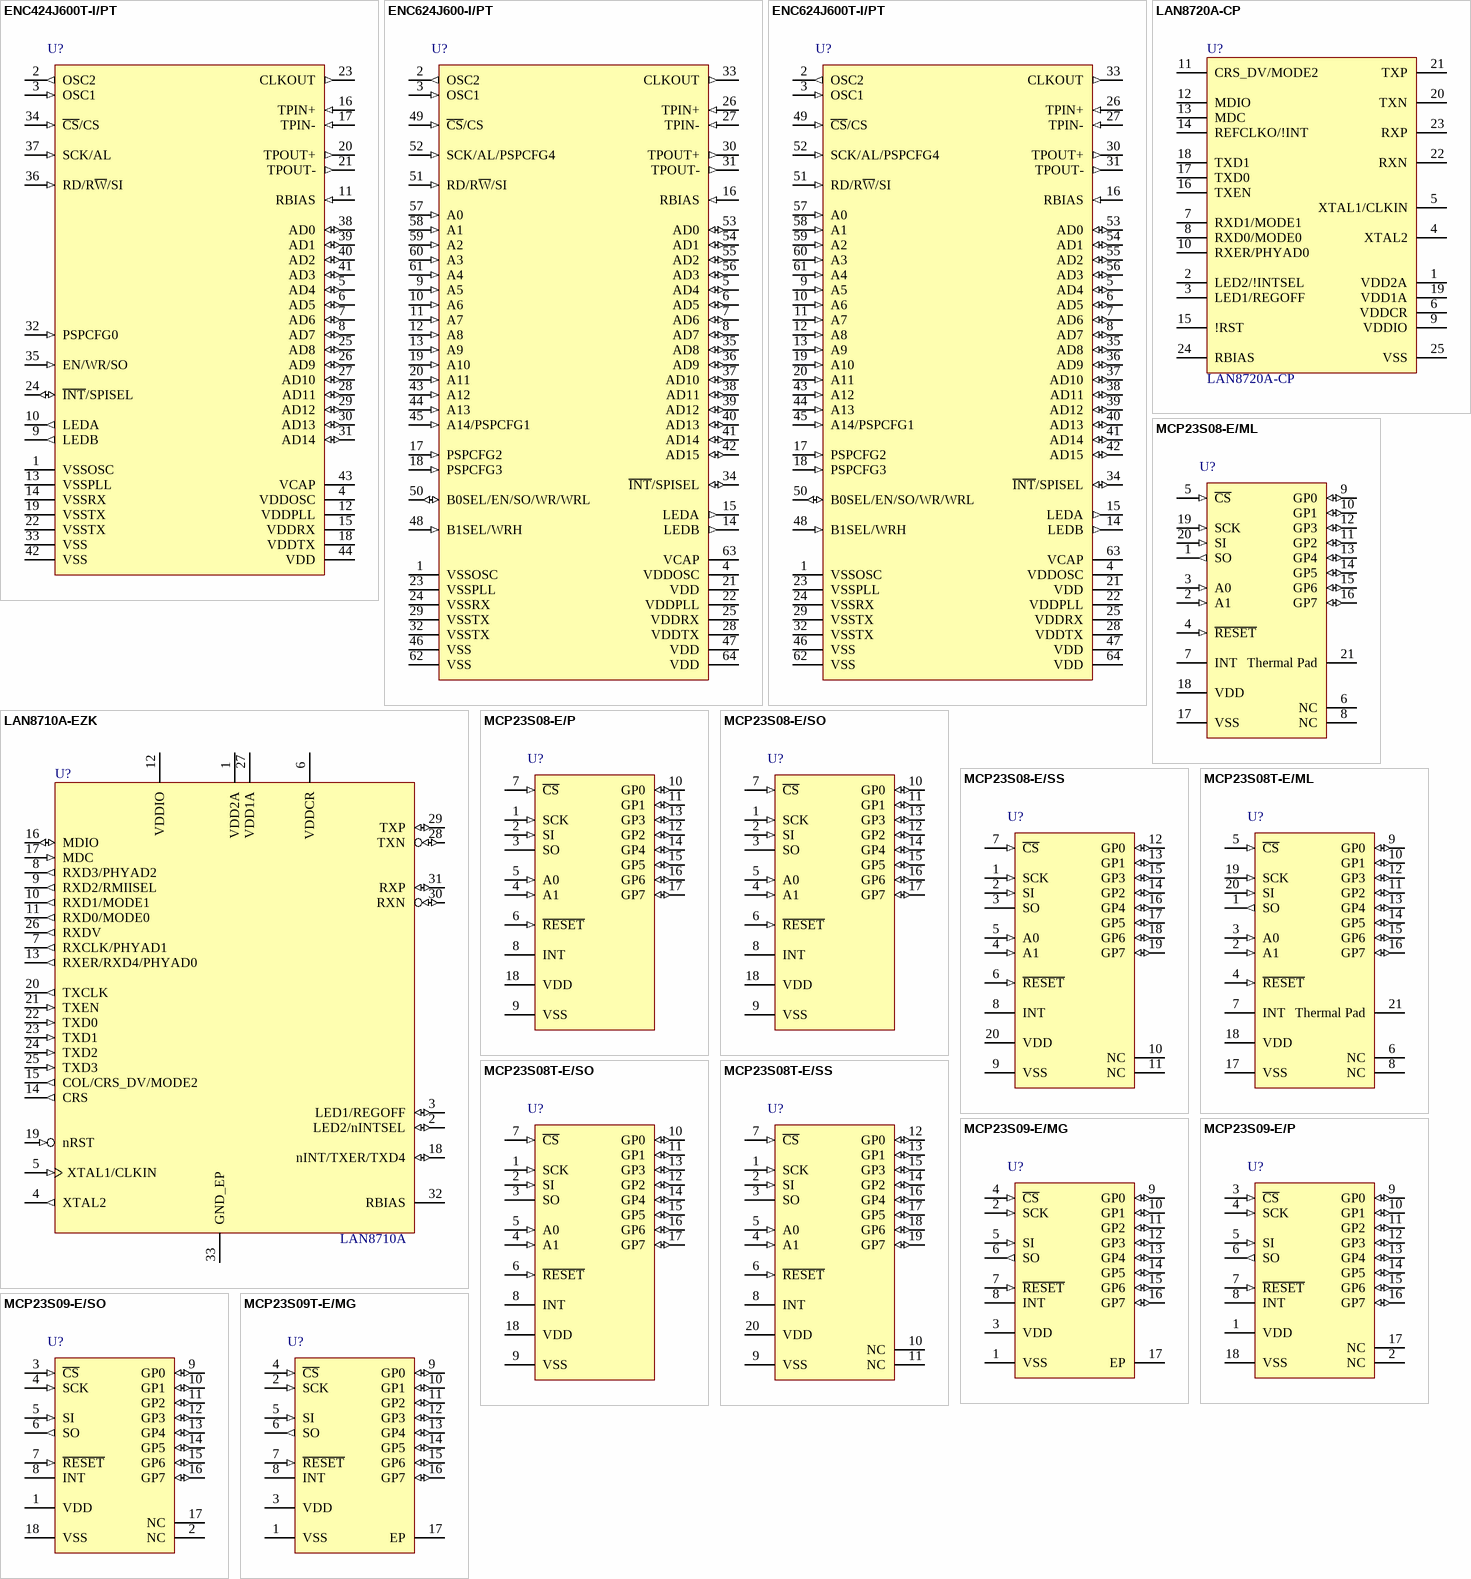
[diagram p2: symbols ENC424J600T-I/PT to MCP23S09T-E/MG]

## ENC424J600T-I/PT
designator U?
Stand-Alone 10/100 Ethernet Controller with SPI or Parallel Interface, 44-Pin TQFP, Industrial Temperature, Tape and Reel; Manufacturer: Microchip; PartNumber: ENC424J600T-I/PT; DatasheetVersion: revC, Jan-2010; PackageVersion: revBB, Aug-2009; PackageReference: TQFP-PT44; PackageDescription: 44-Lead Plastic Thin Quad Flatpack (PT) - 10x10x1mm Body, 2.00mm [TQFP]; Supplier 1: Digi-Key; Supplier Part Number 1: ENC424J600T-I/PT-ND; Mounting Technology: Surface Mount; Code_JEDEC: MS-026; ComponentLink1Description: Manufacturer URL; ComponentLink1URL: http://www.microchip.com/; ComponentLink2Description: Datasheet; ComponentLink2URL: http://ww1.microchip.com/downloads/en/DeviceDoc/39935c.pdf; ComponentLink3Description: Package Specification; ComponentLink3URL: http://www.microchip.com/stellent/groups/techpub_sg/documents/packagingspec/en012702.pdf
footprint TQFP-PT44_N (Thin QFP, 44-Leads, Body 10x10mm, Pitch 0.8mm, IPC Medium Density)
footprint TQFP-PT44_L (Thin QFP, 44-Leads, Body 10x10mm, Pitch 0.8mm, IPC High Density)
footprint TQFP-PT44_M (Thin QFP, 44-Leads, Body 10x10mm, Pitch 0.8mm, IPC Low Density)
pins: 1 VSSOSC (power), 2 OSC2 (out), 3 OSC1 (in), 4 VDDOSC (power), 5 AD4 (io), 6 AD5 (io), 7 AD6 (io), 8 AD7 (io), 9 LEDB (out), 10 LEDA (out), 11 RBIAS (in), 12 VDDPLL (power), 13 VSSPLL (power), 14 VSSRX (power), 15 VDDRX (power), 16 TPIN+ (in), 17 TPIN- (in), 18 VDDTX (power), 19 VSSTX (power), 20 TPOUT+ (out), 21 TPOUT- (out), 22 VSSTX (power), 23 CLKOUT (out), 24 ~{INT}/SPISEL (io), 25 AD8 (io), 26 AD9 (io), 27 AD10 (io), 28 AD11 (io), 29 AD12 (io), 30 AD13 (io), 31 AD14 (io), 32 PSPCFG0 (in), 33 VSS (power), 34 ~{CS}/CS (in), 35 EN/WR/SO (in), 36 RD/R~{W}/SI (in), 37 SCK/AL (in), 38 AD0 (io), 39 AD1 (io), 40 AD2 (io), 41 AD3 (io), 42 VSS (power), 43 VCAP (power), 44 VDD (power)

## ENC624J600-I/PT
designator U?
Stand-Alone 10/100 Ethernet Controller with SPI or Parallel Interface, 64-Pin TQFP, Industrial Temperature; Manufacturer: Microchip; PartNumber: ENC624J600-I/PT; DatasheetVersion: revC, Jan-2010; PackageVersion: revBB, Aug-2009; PackageReference: TQFP-PT64; PackageDescription: 64-Lead Thin Plastic Quad Flat Pack (PT) - 10x10x1mm Body, 2.00mm [TQFP]; Supplier 1: Digi-Key; Supplier Part Number 1: ENC624J600-I/PT-ND; Mounting Technology: Surface Mount; Code_JEDEC: MS-026; ComponentLink1Description: Manufacturer URL; ComponentLink1URL: http://www.microchip.com/; ComponentLink2Description: Datasheet; ComponentLink2URL: http://ww1.microchip.com/downloads/en/DeviceDoc/39935c.pdf; ComponentLink3Description: Package Specification; ComponentLink3URL: http://www.microchip.com/stellent/groups/techpub_sg/documents/packagingspec/en012702.pdf
footprint TQFP-PT64_N (Thin QFP, 64-Leads, Body 10x10mm, Pitch 0.5mm, IPC Medium Density)
footprint TQFP-PT64_L (Thin QFP, 64-Leads, Body 10x10mm, Pitch 0.5mm, IPC High Density)
footprint TQFP-PT64_M (Thin QFP, 64-Leads, Body 10x10mm, Pitch 0.5mm, IPC Low Density)
pins: 1 VSSOSC (power), 2 OSC2 (out), 3 OSC1 (in), 4 VDDOSC (power), 5 AD4 (io), 6 AD5 (io), 7 AD6 (io), 8 AD7 (io), 9 A5 (in), 10 A6 (in), 11 A7 (in), 12 A8 (in), 13 A9 (in), 14 LEDB (out), 15 LEDA (out), 16 RBIAS (in), 17 PSPCFG2 (in), 18 PSPCFG3 (in), 19 A10 (in), 20 A11 (in), 21 VDD (power), 22 VDDPLL (power), 23 VSSPLL (power), 24 VSSRX (power), 25 VDDRX (power), 26 TPIN+ (in), 27 TPIN- (in), 28 VDDTX (power), 29 VSSTX (power), 30 TPOUT+ (out), 31 TPOUT- (out), 32 VSSTX (power), 33 CLKOUT (out), 34 ~{INT}/SPISEL (io), 35 AD8 (io), 36 AD9 (io), 37 AD10 (io), 38 AD11 (io), 39 AD12 (io), 40 AD13 (io), 41 AD14 (io), 42 AD15 (io), 43 A12 (in), 44 A13 (in), 45 A14/PSPCFG1 (in), 46 VSS (power), 47 VDD (power), 48 B1SEL/WRH (in), 49 ~{CS}/CS (in), 50 B0SEL/EN/SO/WR/WRL (io), 51 RD/R~{W}/SI (in), 52 SCK/AL/PSPCFG4 (in), 53 AD0 (io), 54 AD1 (io), 55 AD2 (io), 56 AD3 (io), 57 A0 (in), 58 A1 (in), 59 A2 (in), 60 A3 (in), 61 A4 (in), 62 VSS (power), 63 VCAP (power), 64 VDD (power)

## ENC624J600T-I/PT
designator U?
Stand-Alone 10/100 Ethernet Controller with SPI or Parallel Interface, 64-Pin TQFP, Industrial Temperature, Tape and Reel; Manufacturer: Microchip; PartNumber: ENC624J600T-I/PT; DatasheetVersion: revC, Jan-2010; PackageVersion: revBB, Aug-2009; PackageReference: TQFP-PT64; PackageDescription: 64-Lead Thin Plastic Quad Flat Pack (PT) - 10x10x1mm Body, 2.00mm [TQFP]; Supplier 1: Digi-Key; Supplier Part Number 1: ENC624J600T-I/PT-ND; Mounting Technology: Surface Mount; Code_JEDEC: MS-026; ComponentLink1Description: Manufacturer URL; ComponentLink1URL: http://www.microchip.com/; ComponentLink2Description: Datasheet; ComponentLink2URL: http://ww1.microchip.com/downloads/en/DeviceDoc/39935c.pdf; ComponentLink3Description: Package Specification; ComponentLink3URL: http://www.microchip.com/stellent/groups/techpub_sg/documents/packagingspec/en012702.pdf
footprint TQFP-PT64_N (Thin QFP, 64-Leads, Body 10x10mm, Pitch 0.5mm, IPC Medium Density)
footprint TQFP-PT64_L (Thin QFP, 64-Leads, Body 10x10mm, Pitch 0.5mm, IPC High Density)
footprint TQFP-PT64_M (Thin QFP, 64-Leads, Body 10x10mm, Pitch 0.5mm, IPC Low Density)
pins: 1 VSSOSC (power), 2 OSC2 (out), 3 OSC1 (in), 4 VDDOSC (power), 5 AD4 (io), 6 AD5 (io), 7 AD6 (io), 8 AD7 (io), 9 A5 (in), 10 A6 (in), 11 A7 (in), 12 A8 (in), 13 A9 (in), 14 LEDB (out), 15 LEDA (out), 16 RBIAS (in), 17 PSPCFG2 (in), 18 PSPCFG3 (in), 19 A10 (in), 20 A11 (in), 21 VDD (power), 22 VDDPLL (power), 23 VSSPLL (power), 24 VSSRX (power), 25 VDDRX (power), 26 TPIN+ (in), 27 TPIN- (in), 28 VDDTX (power), 29 VSSTX (power), 30 TPOUT+ (out), 31 TPOUT- (out), 32 VSSTX (power), 33 CLKOUT (out), 34 ~{INT}/SPISEL (io), 35 AD8 (io), 36 AD9 (io), 37 AD10 (io), 38 AD11 (io), 39 AD12 (io), 40 AD13 (io), 41 AD14 (io), 42 AD15 (io), 43 A12 (in), 44 A13 (in), 45 A14/PSPCFG1 (in), 46 VSS (power), 47 VDD (power), 48 B1SEL/WRH (in), 49 ~{CS}/CS (in), 50 B0SEL/EN/SO/WR/WRL (io), 51 RD/R~{W}/SI (in), 52 SCK/AL/PSPCFG4 (in), 53 AD0 (io), 54 AD1 (io), 55 AD2 (io), 56 AD3 (io), 57 A0 (in), 58 A1 (in), 59 A2 (in), 60 A3 (in), 61 A4 (in), 62 VSS (power), 63 VCAP (power), 64 VDD (power)

## LAN8710A-EZK
designator U?, comment LAN8710A
Ethernet ICs 10/100 Ethernet XCVR w/HPAutoMDIX FlexPwr; PART#: SMSC LAN8710A-EZK; Manufacturer: Microchip Technology; Manufacturer Part Number: LAN8710A-EZK-TR; Data Rate: 125 Mb/s; Number of Transceivers: 1; Standard Supported: 802.3, 802.3u; Supply Voltage - Max: 3.6 V; Supply Voltage - Min: 1.6 V, 3 V; RoHS: RoHS Compliant; Category: Ethernet ICs; Package / Case: QFN-32; Packaging: Reel; Product: Ethernet Transceivers; Type: Single Chip; Mounting Style: SMD/SMT; Maximum Operating Temperature: + 85 C; Minimum Operating Temperature: 0 C; Product Category: Ethernet Controllers; RoHS - Mouser: Y; Minimum Order Quantity: 1; Reeling: True; ComponentLink1URL: http://www.smsc.com/media/Downloads_Public/Data_Sheets/8710a.pdf; ComponentLink1Description: http://www.smsc.com/media/Downloads_Public/Data_Sheets/8710a.pdf; Supplier 1: Digi-Key; Supplier Part Number 1: LAN8710A-EZK-DKR-ND; Value: LAN8710A
footprint QFN32_5x5 (QFN32_5X5MM_EP3P3MM)
pins: 1 VDD2A (power), 2 LED2/nINTSEL (io), 3 LED1/REGOFF (io), 4 XTAL2 (out), 5 XTAL1/CLKIN (in), 6 VDDCR (power), 7 RXCLK/PHYAD1 (out), 8 RXD3/PHYAD2 (out), 9 RXD2/RMIISEL (out), 10 RXD1/MODE1 (out), 11 RXD0/MODE0 (out), 12 VDDIO (power), 13 RXER/RXD4/PHYAD0 (out), 14 CRS (out), 15 COL/CRS_DV/MODE2 (out), 16 MDIO (io), 17 MDC (in), 18 nINT/TXER/TXD4 (io), 19 nRST (in), 20 TXCLK (out), 21 TXEN (in), 22 TXD0 (in), 23 TXD1 (in), 24 TXD2 (in), 25 TXD3 (in), 26 RXDV (out), 27 VDD1A (power), 28 TXN (io), 29 TXP (io), 30 RXN (io), 31 RXP (io), 32 RBIAS, 33 GND_EP (power)

## LAN8720A-CP
designator U?
IC TXRX ETHERNET 24QFN; Manufacturer: Microchip Technology; Protocol: RMII; Number of Drivers/Receivers: 4/4; Duplex: Full; Voltage - Supply: 1.6 V ~ 3.6 V; Supplier 1: Digi-Key; Manufacturer Part Number: LAN8720A-CP; RoHS: RoHS Compliant; Category: Integrated Circuits (ICs); Stock 1: 5836; Pricing 1: 1=1.19, 25=0.9992, 100=0.9656 (USD); Packaging: Tray; Part Status: Active; Type: Transceiver; Receiver Hysteresis: -; Data Rate: -; Operating Temperature: 0°C ~ 85°C; Mounting Type: Surface Mount; Package / Case: 24-VFQFN Exposed Pad; Supplier Device Package: 24-QFN-EP (4x4); ComponentLink1URL: http://www.microchip.com/mymicrochip/filehandler.aspx?ddocname=en586588; ComponentLink1Description: http://www.microchip.com/mymicrochip/filehandler.aspx?ddocname=en586588; Value: LAN8720A-CP; Supplier Part Number 1: 638-1080-ND
footprint QFN-MJ24 (QFN, 24-Leads, Body 4x4mm, Pitch 0.5mm, Thermal Pad 2.6x2.6mm, Microchip Recommended)
pins: 1 VDD2A (power), 2 LED2/!INTSEL, 3 LED1/REGOFF, 4 XTAL2, 5 XTAL1/CLKIN, 6 VDDCR (power), 7 RXD1/MODE1, 8 RXD0/MODE0, 9 VDDIO (power), 10 RXER/PHYAD0, 11 CRS_DV/MODE2, 12 MDIO, 13 MDC, 14 REFCLKO/!INT, 15 !RST, 16 TXEN, 17 TXD0, 18 TXD1, 19 VDD1A (power), 20 TXN, 21 TXP, 22 RXN, 23 RXP, 24 RBIAS, 25 VSS (power)

## MCP23S08-E/ML
designator U?
8-Bit I/O Expander with Serial Interface, 20-Pin QFN, Extended Temperature; Manufacturer: Microchip; PartNumber: MCP23S08-E/ML; DatasheetVersion: revE, Aug-2007; PackageVersion: revBB, Aug-2009; PackageReference: QFN-ML20; PackageDescription: 20-Lead Plastic Quad Flat, No Lead Package (ML) - 4x4x0.9 mm Body [QFN]; Supplier 1: Digi-Key; Supplier Part Number 1: MCP23S08-E/ML-ND; Mounting Technology: Surface Mount; ComponentLink1Description: Manufacturer URL; ComponentLink1URL: http://www.microchip.com/; ComponentLink2Description: Datasheet; ComponentLink2URL: http://ww1.microchip.com/downloads/en/DeviceDoc/21919e.pdf; ComponentLink3Description: Package Specification; ComponentLink3URL: http://www.microchip.com/stellent/groups/techpub_sg/documents/packagingspec/en012702.pdf
footprint QFN-ML20_N (QFN, 20-Leads, Body 4x4mm, Pitch 0.5mm, Thermal Pad 2.8x2.8mm, IPC Medium Density)
footprint QFN-ML20_L (QFN, 20-Leads, Body 4x4mm, Pitch 0.5mm, Thermal Pad 2.8x2.8mm, IPC High Density)
footprint QFN-ML20_M (QFN, 20-Leads, Body 4x4mm, Pitch 0.5mm, Thermal Pad 2.8x2.8mm, IPC Low Density)
pins: 1 SO (out), 2 A1 (in), 3 A0 (in), 4 ~{RESET} (in), 5 ~{CS} (in), 6 NC, 7 INT (oc), 8 NC, 9 GP0 (io), 10 GP1 (io), 11 GP2 (io), 12 GP3 (io), 13 GP4 (io), 14 GP5 (io), 15 GP6 (io), 16 GP7 (io), 17 VSS (power), 18 VDD (power), 19 SCK (in), 20 SI (in), 21 Thermal Pad

## MCP23S08-E/P
designator U?
8-Bit I/O Expander with Serial Interface, 18-Pin PDIP, Extended Temperature; Manufacturer: Microchip; PartNumber: MCP23S08-E/P; DatasheetVersion: revE, Aug-2007; PackageVersion: revBB, Aug-2009; PackageReference: PDIP300-P18; PackageDescription: 18-Lead Plastic Dual In-Line (P) - 300 mil Body [PDIP]; Supplier 1: Digi-Key; Supplier Part Number 1: MCP23S08-E/P-ND; Mounting Technology: Through Hole; Code_JEDEC: MS-001; ComponentLink1Description: Manufacturer URL; ComponentLink1URL: http://www.microchip.com/; ComponentLink2Description: Datasheet; ComponentLink2URL: http://ww1.microchip.com/downloads/en/DeviceDoc/21919e.pdf; ComponentLink3Description: Package Specification; ComponentLink3URL: http://www.microchip.com/stellent/groups/techpub_sg/documents/packagingspec/en012702.pdf
footprint PDIP300-P18 (DIP, 18-Leads, Row Spacing 7.62mm, Pitch 2.54mm, Body 22.9x6.6mm)
pins: 1 SCK (in), 2 SI (in), 3 SO (hiz), 4 A1 (in), 5 A0 (in), 6 ~{RESET} (in), 7 ~{CS} (in), 8 INT (oc), 9 VSS (power), 10 GP0 (io), 11 GP1 (io), 12 GP2 (io), 13 GP3 (io), 14 GP4 (io), 15 GP5 (io), 16 GP6 (io), 17 GP7 (io), 18 VDD (power)